# EAGLE library part MSP430G2XX1 (library TI_MSP430Gxxx)
Mixed Signal Microcontroller MSP430 Value Line MSP430G2211: 2 KiB Flash Memory, 128 B RAM, 1x Timer_A, 8 Comp_A+ Ch, 10x I/O MSP430G2201: 2 KiB Flash Memory, 128 B RAM, 1x Timer_A, 10x I/O MSP430G2111: 1 KiB Flash Memory, 128 B RAM, 1x Timer_A, 8 Comp_A+ Ch, 10x I/O MSP430G2101: 1 KiB Flash Memory, 128 B RAM, 1x Timer_A, 10x I/O MSP430G2001: 512B Flash Memory, 128 B RAM, 1x Timer_A, 10x I/O MSP430G2231: 1x EEM, 2 KiB Flash Memory, 128 B RAM, 1x Timer_A, 1x USI, 8x ADC10 Ch, 10x I/O MSP430G2221: 1x EEM, 2 KiB Flash Memory, 128 B RAM, 1x Timer_A, 1x USI, 10x I/O MSP430G2131: 1x EEM, 1 KiB Flash Memory, 128 B RAM, 1x Timer_A, 1x USI, 8x ADC10 Ch, 10x I/O MSP430G2121: 1x EEM, 1 KiB Flash Memory, 128 B RAM, 1x Timer_A, 1x USI, 10x I/O
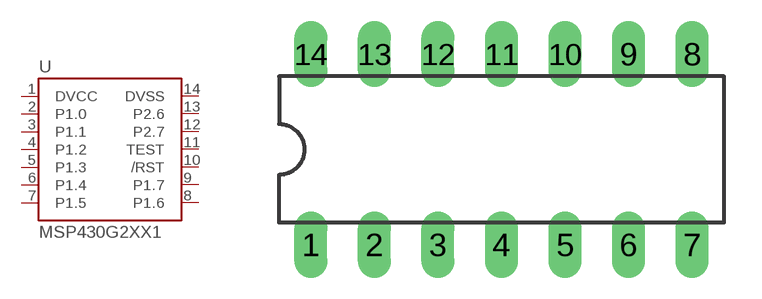
[diagram p0: symbol with the pads of DIL14; footprint DIL14]

Designator prefix -

## MSP430G2XX1IN14  [DIL14]
1  DVCC  pwr
2  P1.0
3  P1.1
4  P1.2
5  P1.3
6  P1.4
7  P1.5
8  P1.6
9  P1.7
10  /RST
11  TEST
12  P2.7
13  P2.6
14  DVSS  pwr

## Footprint DIL14 (pad centres in mm)
Dual In Line Package
drill 0.813 long: 1 -7.62,-3.81; 2 -5.08,-3.81; 3 -2.54,-3.81; 4 0,-3.81; 5 2.54,-3.81; 6 5.08,-3.81; 7 7.62,-3.81; 8 7.62,3.81; 9 5.08,3.81; 10 2.54,3.81; 11 0,3.81; 12 -2.54,3.81; 13 -5.08,3.81; 14 -7.62,3.81